# Altium footprint library PCA9420.PcbLib: 1 footprints
Each footprint in its own frame and in the unit in brackets; x right, y up, seen from the top. Pads: shape width x height; smd on the part's side, far side on the other; paste and mask are expansions set on the pad; w line width, h text height; cw(c..) or ccw(c..) is an arc to the next point about the centre after c.
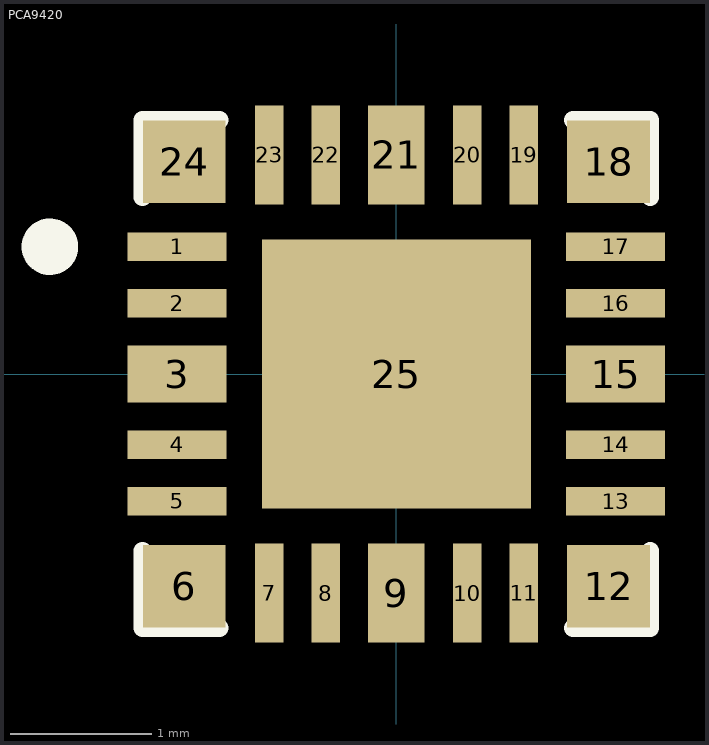
[diagram p0: the footprint, top view; thin cyan lines are the x and y axes]

## PCA9420 [mm]
pads (25):
  rect 0.7x0.2 smd mask+0.051: 1(-1.55,0.9) 2(-1.55,0.5) 4(-1.55,-0.5) 5(-1.55,-0.9) 13(1.55,-0.9) 14(1.55,-0.5) 16(1.55,0.5) 17(1.55,0.9)
  rect 0.7x0.4 smd mask+0.051: 3(-1.55,0) 15(1.55,0)
  rect 0.584x0.584 smd mask+0.051: 6(-1.5,-1.5) 12(1.5,-1.5) 18(1.5,1.5) 24(-1.5,1.5)
  rect 0.2x0.7 smd mask+0.051: 7(-0.9,-1.55) 8(-0.5,-1.55) 10(0.5,-1.55) 11(0.9,-1.55) 19(0.9,1.55) 20(0.5,1.55) 22(-0.5,1.55) 23(-0.9,1.55)
  rect 0.4x0.7 smd mask+0.051: 9(0,-1.55) 21(0,1.55)
  rect 1.9x1.9 smd mask+0.051: 25(0,0)
Top Overlay:
  circle w0.2: c-2.45,0.9 r0.1
  lines w0.127: -1.795,-1.25 -1.795,-1.795 -1.25,-1.795 ; -1.795,1.25 -1.795,1.795 -1.25,1.795 ; 1.25,-1.795 1.795,-1.795 1.795,-1.25 ; 1.25,1.795 1.795,1.795 1.795,1.25
Top Paste:
  region: 0.132,-0.132 0.818,-0.132 0.818,-0.818 0.132,-0.818
  region: -0.818,0.818 -0.132,0.818 -0.132,0.132 -0.818,0.132
  region: -0.818,-0.132 -0.132,-0.132 -0.132,-0.818 -0.818,-0.818
  region: 0.132,0.818 0.818,0.818 0.818,0.132 0.132,0.132
Top Solder:
  region: -1,1 1,1 1,-1 -1,-1
  region: -1.95,0.25 -1.15,0.25 -1.15,-0.25 -1.95,-0.25
  region: -1.95,-0.35 -1.15,-0.35 -1.15,-0.65 -1.95,-0.65
  region: -1.95,-0.75 -1.15,-0.75 -1.15,-1.05 -1.95,-1.05
  region: -1.95,0.65 -1.15,0.65 -1.15,0.35 -1.95,0.35
  region: -1.95,1.05 -1.15,1.05 -1.15,0.75 -1.95,0.75
  region: -1.95,1.05 -1.15,1.05 -1.15,0.75 -1.95,0.75
  region: -1.95,1.05 -1.15,1.05 -1.15,0.75 -1.95,0.75
  region: 1.15,1.05 1.95,1.05 1.95,0.75 1.15,0.75
  region: 1.15,0.65 1.95,0.65 1.95,0.35 1.15,0.35
  region: 1.15,-0.35 1.95,-0.35 1.95,-0.65 1.15,-0.65
  region: 1.15,-0.75 1.95,-0.75 1.95,-1.05 1.15,-1.05
  region: 1.15,0.25 1.95,0.25 1.95,-0.25 1.15,-0.25
  region: -1.05,1.95 -0.75,1.95 -0.75,1.15 -1.05,1.15
  region: 0.75,1.95 1.05,1.95 1.05,1.15 0.75,1.15
  region: -0.65,1.95 -0.35,1.95 -0.35,1.15 -0.65,1.15
  region: 0.35,1.95 0.65,1.95 0.65,1.15 0.35,1.15
  region: -0.25,1.95 0.25,1.95 0.25,1.15 -0.25,1.15
  region: -1.05,-1.15 -0.75,-1.15 -0.75,-1.95 -1.05,-1.95
  region: -0.65,-1.15 -0.35,-1.15 -0.35,-1.95 -0.65,-1.95
  region: -0.25,-1.15 0.25,-1.15 0.25,-1.95 -0.25,-1.95
  region: 0.35,-1.15 0.65,-1.15 0.65,-1.95 0.35,-1.95
  region: 0.75,-1.15 1.05,-1.15 1.05,-1.95 0.75,-1.95
3D body: height 1, standoff 0.05, extent -1.5,-1.5 1.5,1.5